# Altium footprint library U_Conn2x10.PcbLib: 1 footprints
Each footprint in its own frame and in the unit in brackets; x right, y up, seen from the top. Pads: shape width x height; smd on the part's side, far side on the other; paste and mask are expansions set on the pad; w line width, h text height; cw(c..) or ccw(c..) is an arc to the next point about the centre after c.
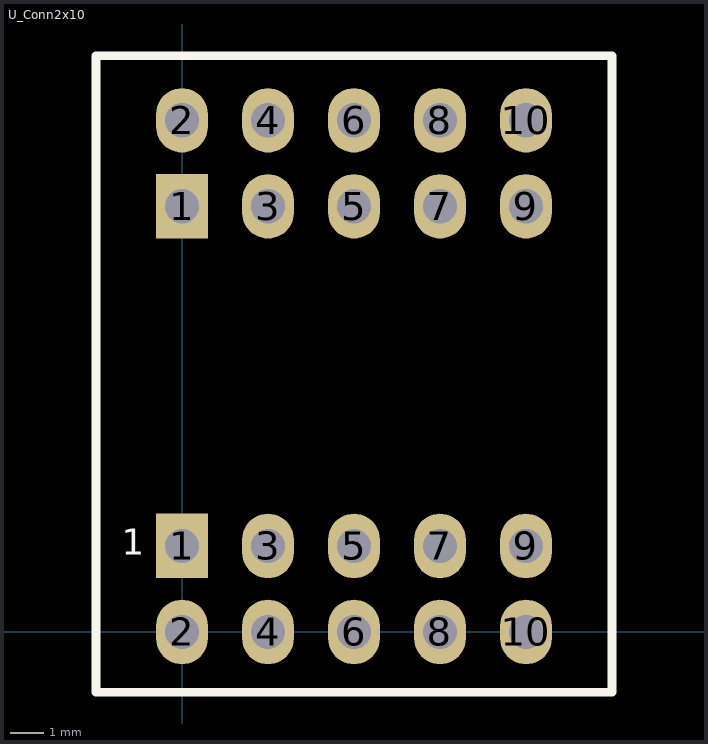
[diagram p0: the footprint, top view; thin cyan lines are the x and y axes]

## U_Conn2x10 [mil]
pads (20):
  rect 60x75 hole 40: 1(0,100) 1(0,495)
  oval 60x75 hole 40: 2(0,0) 2(0,595) 3(100,100) 3(100,495) 4(100,0) 4(100,595) 5(200,100) 5(200,495) 6(200,0) 6(200,595) 7(300,100) 7(300,495) 8(300,0) 8(300,595) 9(400,100) 9(400,495) 10(400,0) 10(400,595)
Top Overlay:
  lines w10: -100,-70 500,-70 500,670 -100,670 -100,-70
  text "1" at -70,90 h30
3D body: height 198.43, standoff -100.79, extent -50,-14.45 450,604.45